# EAGLE library part PIN_HEADER_9 (library icmi-connectors)
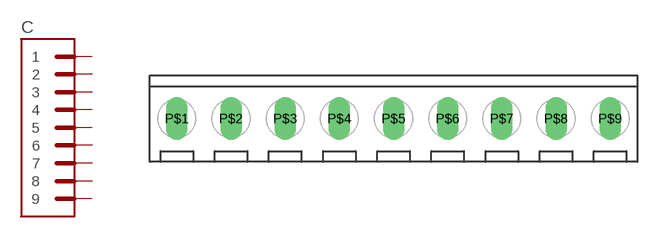
[diagram p3: symbol with the pads of TERMINAL_BLOCK_9; footprint TERMINAL_BLOCK_9]

Designator prefix C

## PIN_HEADER_9-SCREW-TERMINAL  [TERMINAL_BLOCK_9]
P$1  1
P$2  2
P$3  3
P$4  4
P$5  5
P$6  6
P$7  7
P$8  8
P$9  9

## Footprint TERMINAL_BLOCK_9 (pad centres in mm)
Screw type terminal block, 9 contacts, 5mm pitch
drill 1 pad 2 long: P$1 -20,0; P$2 -15,0; P$3 -10,0; P$4 -5,0; P$5 0,0; P$6 5,0; P$7 10,0; P$8 15,0; P$9 20,0